# Altium schematic symbol library CD4017BNSR.SchLib: 1 symbol
Pins are listed as number, name and electrical type; pins without a type are passive.

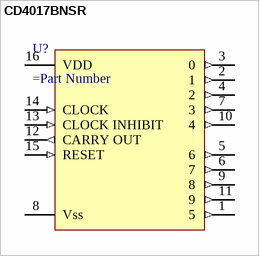
[diagram p0: symbol CD4017BNSR]

## CD4017BNSR
designator U?
=Description
pins: 1 5 (out), 2 1 (out), 3 0 (out), 4 2 (out), 5 6 (out), 6 7 (out), 7 3 (out), 8 Vss (power), 9 8 (out), 10 4 (out), 11 9 (out), 12 CARRY OUT (out), 13 CLOCK INHIBIT (in), 14 CLOCK (in), 15 RESET (in), 16 VDD (power)